# EAGLE library part SN74AUP2G17 (library power)
The SN74AUP2G17 contains two buffers and performs the Boolean function Y = A. The device functions as two independent buffers, but because of Schmitt action, it may have different input threshold levels for positive-going (VT+) and negative-going (VT–) signals. NanoStar™ package technology is a major breakthrough in IC packaging concepts, using the die as the package. This device is fully specified for partial-power-down applications using Ioff. The Ioff circuitry disables the outputs, preventing damaging current backflow through the device when it is powered down.
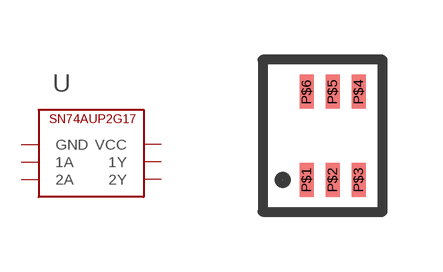
[diagram p4: symbol with the pads of SC-70-6; footprint SC-70-6]

Designator prefix U

## SN74AUP2G17DCKR  [SC-70-6]
P$1  1A
P$2  GND  pwr
P$3  2A
P$4  2Y
P$5  VCC  pwr
P$6  1Y

## Footprint SC-70-6 (pad centres in mm)
smd 0.35 x 0.85: P$1 0,-2.2; P$2 0.65,-2.2; P$3 1.3,-2.2; P$4 1.3,0; P$5 0.65,0; P$6 0,0